# Altium footprint library 3314G-1-102E.PcbLib: 1 footprints
Each footprint in its own frame and in the unit in brackets; x right, y up, seen from the top. Pads: shape width x height; smd on the part's side, far side on the other; paste and mask are expansions set on the pad; w line width, h text height; cw(c..) or ccw(c..) is an arc to the next point about the centre after c.
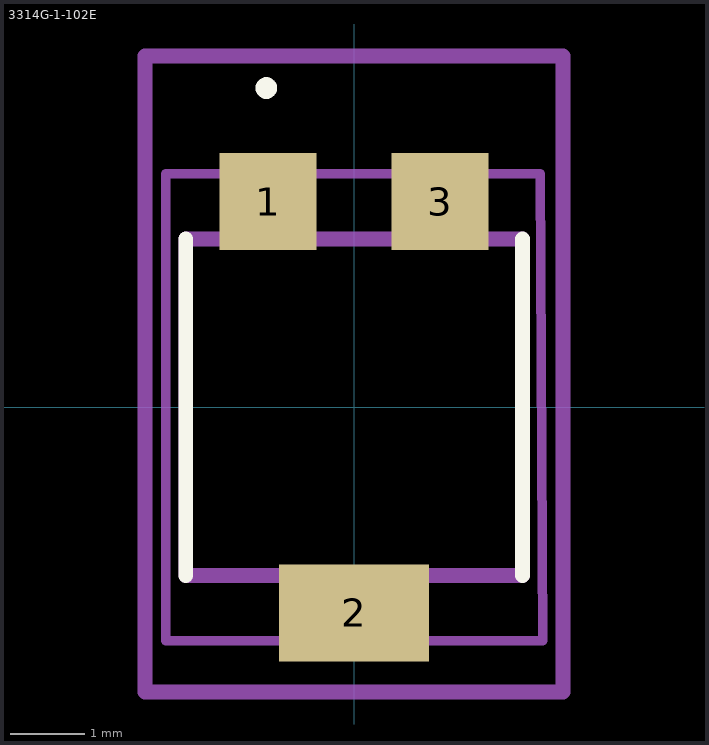
[diagram p0: the footprint, top view; thin cyan lines are the x and y axes]

## 3314G-1-102E [mm]
pads (3):
  rect 1.3x1.3 smd: 1(-1.15,2.75) 3(1.15,2.75)
  rect 2x1.3 smd: 2(0,-2.75)
Top Overlay:
  circle w0.2: c-1.172,4.268 r0.045
  lines w0.2: -2.25,-2.25 -2.25,2.25 ; 2.25,-2.25 2.25,2.25
Top Assembly:
  lines w0.127: -2.515,-3.124 2.521,-3.124 2.489,3.124 -2.515,3.124 -2.515,-3.124
  text "'.Designator'" at 2.769,-0.762 h0.7
Mechanical 13:
  lines w0.2: -2.25,-2.25 2.25,-2.25 2.25,2.25 -2.25,2.25 -2.25,-2.25
Top Component Outline:
  lines w0.2: -2.794,-3.81 2.794,-3.81 2.794,4.699 -2.794,4.699 -2.794,-3.81
3D body "3314G-1-102E.stp": height 2.73, standoff 0, extent -2.499,-3.099 2.5,3.099